# EAGLE library part MC10EP16DG (library ON Semiconductor_By_element14_Batch_1)
ECL Differential Receiver/Driver
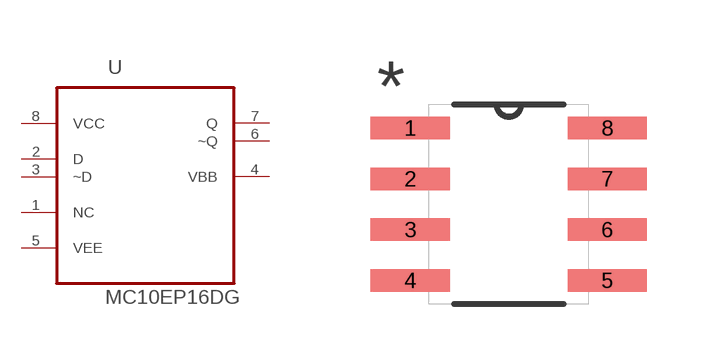
[diagram p173: symbol with the pads of SOIC127P600X175-8N; footprint SOIC127P600X175-8N]

Designator prefix U

## MC10EP16DG (MPN: MC10EP16DG; OC_FARNELL: 1607766; OC_NEWARK: 45J0847; PACKAGE: SOIC-8; SUPPLIER: ON SEMICONDUCTOR)  [SOIC127P600X175-8N]
1  NC  nc
2  D  in
3  ~D  in
4  VBB  out
5  VEE  pwr
6  ~Q  out
7  Q  out
8  VCC  pwr

## Footprint SOIC127P600X175-8N (pad centres in mm)
smd 1.981 x 0.559: 1 -2.464,1.905; 2 -2.464,0.635; 3 -2.464,-0.635; 4 -2.464,-1.905; 5 2.464,-1.905; 6 2.464,-0.635; 7 2.464,0.635; 8 2.464,1.905